# Altium integrated library Integrated_Library1.IntLib: 5 symbols
Pins are listed as number, name and electrical type; pins without a type are passive.

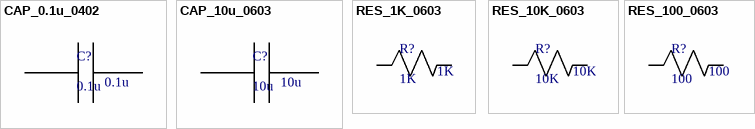
[diagram p0: symbols CAP_0.1u_0402 to RES_100_0603]

## CAP_0.1u_0402
designator C?, comment 0.1u
CAP CER 0.1UF 10V X7R 0402; Manufacturer: Samsung Electro-Mechanics; Manufacturer Part Number 1: CL05B104KP5NNNC; ComponentLink1Description: New link; ComponentLink1URL: https://www.digikey.com/en/products/detail/samsung-electro-mechanics-america-inc/CL05B104KP5NNNC/3889088?curr=usd&utm_campaign=buynow&utm_medium=aggregator&utm_source=octopart; Supplier 1: Digikey; Supplier Part Number 1: 1276-1002-1-ND; Value: 0.1u
footprint CAP_0402
pins: 1, 2

## CAP_10u_0603
designator C?, comment 10u
CAP CER 10UF 10V X5R 0603; Manufacturer: Samsung Electro-Mechanics; Manufacturer Part Number 1: CL10A106KP8NNNC; ComponentLink1Description: New link; ComponentLink1URL: https://www.digikey.com/en/products/detail/samsung-electro-mechanics/CL10A106KP8NNNC/3886850; Supplier 1: Digikey; Supplier Part Number 1: 1276-1192-1-ND; Value: 10u
footprint CAP_0603
pins: 1, 2

## RES_1K_0603
designator R?, comment 1K
RES 1K OHM 1% 1/10W 0603; Manufacturer: Stackpole Electronics Inc; Manufacturer Part Number: RMCF0603FT1K00; Supplier 1: Digi-key; Supplier Part Number 1: RMCF0603FT1K00CT-ND; ComponentLink1Description: New link; ComponentLink1URL: https://www.digikey.com/en/products/detail/stackpole-electronics-inc/RMCF0603FT1K00/1761077; Value: 1K
footprint RES_0603
pins: 1, 2   2

## RES_10K_0603
designator R?, comment 10K
RES 10K OHM 1% 1/10W 0603; Manufacturer Part Number: RMCF0603FT100R; Manufacturer: Stackpole Electronics Inc; ComponentLink1Description: New link; ComponentLink1URL: https://www.digikey.com/en/products/detail/stackpole-electronics-inc/RMCF0603FT10K0/1761235; Supplier Part Number 1: RMCF0603FT10K0CT-ND; Supplier 1: Digi-key; Value: 10K
footprint RES_0603
pins: 1, 2   

## RES_100_0603
designator R?, comment 100
RES 100 OHM 1% 1/10W 0603; Manufacturer: Stackpole Electronics Inc; Manufacturer Part Number: RMCF0603FT100R; Supplier 1: Digi-key; Supplier Part Number 1: RMCF0603FT100RCT-ND; ComponentLink1Description: New link; ComponentLink1URL: https://www.digikey.com/en/products/detail/stackpole-electronics-inc/RMCF0603FT100R/1761113; Value: 100
footprint RES_0603
pins: 1, 2   